# Altium schematic symbol library LM317.Schlib: 1 symbol
Pins are listed as number, name and electrical type; pins without a type are passive.

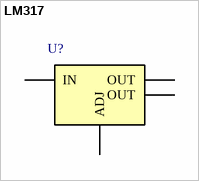
[diagram p0: symbol LM317]

## LM317
designator U?  (value not drawn)
Lin Reg, Adj. output voltage, 1.5A
pins: 1 ADJ, 2 OUT, 3 IN, 4 OUT